# EAGLE library part 3DIG-7SEG-DISPLAY (library HR-MON)
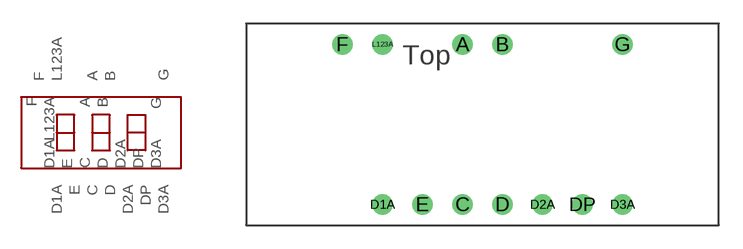
[diagram p1: symbol with the pads of 3-DIGIT-7SEG; footprint 3-DIGIT-7SEG]

Designator prefix -

## 3DIG-7SEG-DISPLAY  [3-DIGIT-7SEG]
A  A
B  B
C  C
D  D
D1A  D1A
D2A  D2A
D3A  D3A
DP  DP
E  E
F  F
G  G
L123A  L123A

## Footprint 3-DIGIT-7SEG (pad centres in mm)
drill 0.8: A 5.08,10.16; B 7.62,10.16; C 5.08,0; D 7.62,0; D1A 0,0; D2A 10.16,0; D3A 15.24,0; DP 12.7,0; E 2.54,0; F -2.54,10.16; G 15.24,10.16; L123A 0,10.16